# Altium schematic symbol library SolidStateRelay.SchLib: 4 symbols
Pins are listed as number, name and electrical type; pins without a type are passive.

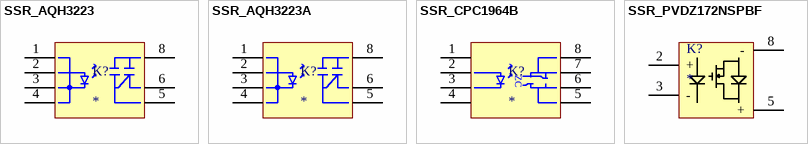
[diagram p0: symbols SSR_AQH3223 to SSR_PVDZ172NSPBF]

## SSR_AQH3223
designator K?
SSR SPST Thru-Hole, 1.2A 0~600V; Digi-Key Part Number: 255-2662-ND
footprint AQH3223 (SSR SPST, 1.2A 0~600V)
pins: 1 -, 2 +, 3 -, 4 -, 5, 6, 8

## SSR_AQH3223A
designator K?
SSR SPST SMD, 1.2A 0~600V; Digi-Key Part Number: 255-2663-ND
footprint AQH3223A (SSR SPST, 1.2A 0~600V)
pins: 1 -, 2 +, 3 -, 4 -, 5, 6, 8

## SSR_CPC1964B
designator K?
SSR SPST SMD, 1.5A 0~800V; Digi-Key Part Number: CLA413-ND
footprint CPC1964B (SSR SPST, 1.5A 0~800V)
pins: 1 NC, 2 LED+, 3 LED-, 4 NC, 5, 6, 7, 8
text: ZC

## SSR_PVDZ172NSPBF
designator K?
SSR SMD 1.5A; Digi-Key Part Number: PVDZ172NSPBF-ND
pins: 2 +, 3 -, 5 +, 8 -